# EAGLE library part ADAFRUIT_TSL2561_DIGITAL_LUMINOSITY_LUX_LIGHT_SENSOR_BREAKOUT (library Adafruit)
Adafruit TSL2561 Digital Luminosity/Lux/Light Sensor Breakout Adafruit TSL2561 Digital Luminosity/Lux/Light Sensor Breakout Further information:http://adafru.it/439 Cost:$5.95
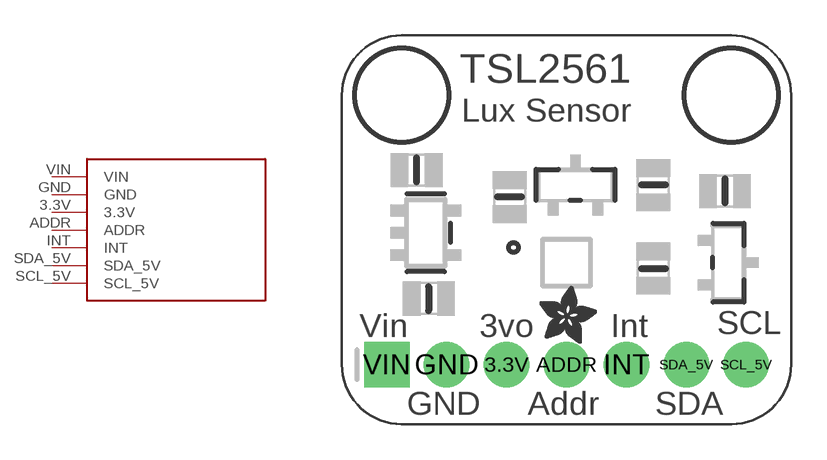
[diagram p1: symbol with the pads of ADAFRUIT_TSL2561_DIGITAL_LUMINOSITY_LUX_LIGHT_SENSOR_BREAKOUT; footprint ADAFRUIT_TSL2561_DIGITAL_LUMINOSITY_LUX_LIGHT_SENSOR_BREAKOUT]

Designator prefix -

## ADAFRUIT_TSL2561_DIGITAL_LUMINOSITY_LUX_LIGHT_SENSOR_BREAKOUT-BOB  [ADAFRUIT_TSL2561_DIGITAL_LUMINOSITY_LUX_LIGHT_SENSOR_BREAKOUT]
3.3V  3.3V
ADDR  ADDR
GND  GND
INT  INT
SCL_5V  SCL_5V
SDA_5V  SDA_5V
VIN  VIN

## Footprint ADAFRUIT_TSL2561_DIGITAL_LUMINOSITY_LUX_LIGHT_SENSOR_BREAKOUT (pad centres in mm)
drill 1 pad 1.93: 3.3V 6.985,2.54; ADDR 9.525,2.54; GND 4.445,2.54; INT 12.065,2.54; SCL_5V 17.145,2.54; SDA_5V 14.605,2.54
drill 1 pad 1.93 square: VIN 1.905,2.54